# Altium integrated library Micron Memory Parallel NOR Flash.IntLib: 720 symbols (part 27 of 216)
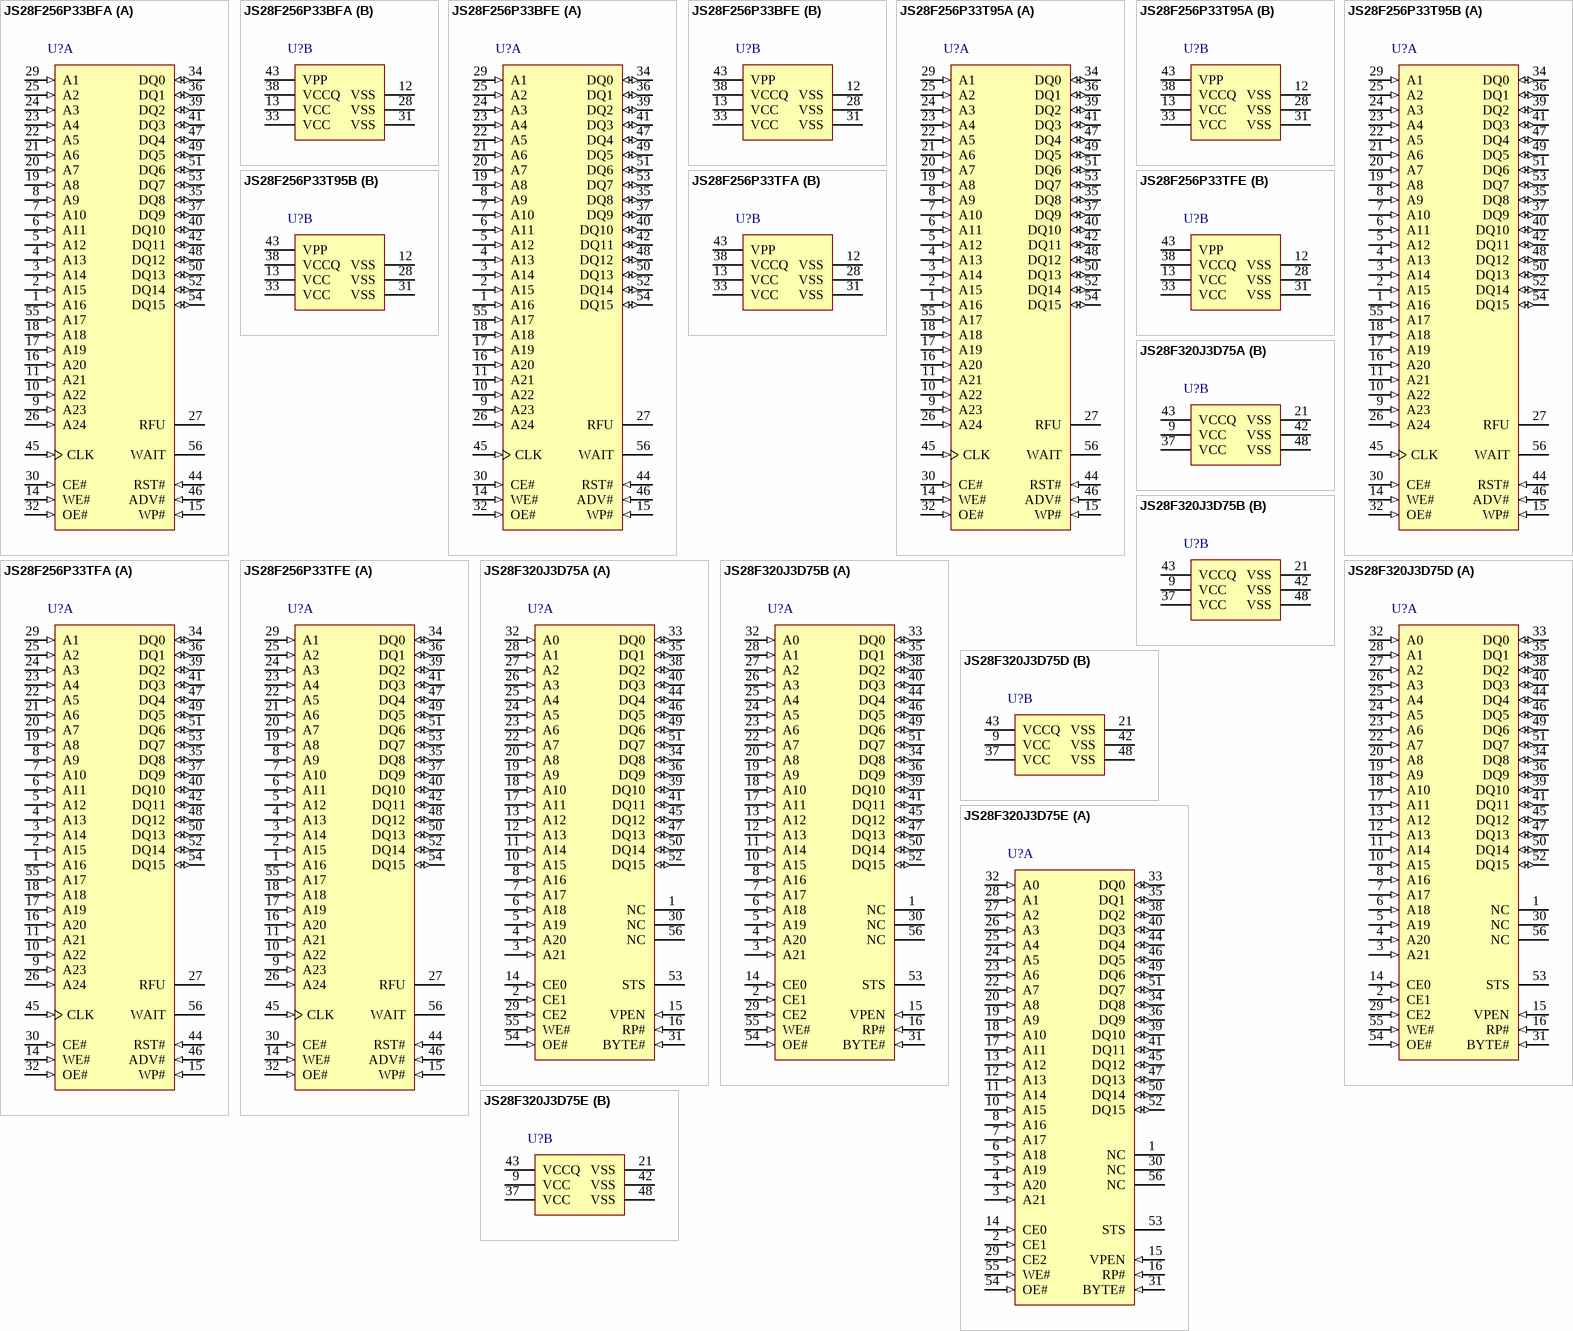
[diagram p185: symbols JS28F256P33BFA to JS28F320J3D75E]

## JS28F320J3D75E
designator U?
32 Mb (x8/x16) Parallel NOR Flash Memory, 75 ns, 2.7 to 3.6 V, 56-pin TSOP (JS), Tray; Part Family: J3; Manufacturer: Micron; PartNumber: JS28F320J3D75E; Density: 32Mb; Op Temp: -40C to +85C; Speed: 75ns; Voltage: 2.7V-3.6V; DatasheetVersion: Rev. 06; PackageVersion: Rev. 12; PackageReference: MICT-JS-56; PackageDescription: 56-Pin TSOP, 18.4 X 14 mm, Pitch 0.5 mm; RoHS: Yes; Width: x8/x16; Mounting Technology: Surface Mount; ComponentLink1Description: Manufacturer URL; ComponentLink1URL: http://www.micron.com/; ComponentLink2Description: Datasheet; ComponentLink2URL: http://www.micron.com/~/media/Documents/Products/Data%20Sheet/NOR%20Flash/Parallel/J3/316577_J3D_Monolithic_DS.pdf; ComponentLink3Description: Package Specification; ComponentLink3URL: http://www.micron.com/~/media/Documents/Products/Data%20Sheet/NOR%20Flash/Parallel/P33/320003_P33_65nm_MLC_256MDiscrete_512MStack_DS.pdf
footprint MICT-JS-56_N (SOP, 56-Leads, Body 18.6x14.2mm, Pitch 0.5mm, IPC Medium Density)
part A pins: 1 NC "No Connect: Lead is not internally connected; it may be driven or floated.", 2 CE1 (in) "CHIP ENABLE: Activates the 32-, 64-, 128-Mbit devices’ control logic, input buffers, decoders, and sense amplifiers. When the device is de-selected (see Table 17, "Chip Enable Truth Table for 32-, 64-, 128-Mb" on page 30), (See Datasheet)", 3 A21 (in) "Address Input: Inputs for addresses during read and program operations. Addresses are internally latched during a program cycle: 32-Mbit -- A[21:1] 64-Mbit-- A[22:1] 128-Mbit -- A[23:1]", 4 A20 (in) "Address Input: Inputs for addresses during read and program operations. Addresses are internally latched during a program cycle: 32-Mbit -- A[21:1] 64-Mbit-- A[22:1] 128-Mbit -- A[23:1]", 5 A19 (in) "Address Input: Inputs for addresses during read and program operations. Addresses are internally latched during a program cycle: 32-Mbit -- A[21:1] 64-Mbit-- A[22:1] 128-Mbit -- A[23:1]", 6 A18 (in) "Address Input: Inputs for addresses during read and program operations. Addresses are internally latched during a program cycle: 32-Mbit -- A[21:1] 64-Mbit-- A[22:1] 128-Mbit -- A[23:1]", 7 A17 (in) "Address Input: Inputs for addresses during read and program operations. Addresses are internally latched during a program cycle: 32-Mbit -- A[21:1] 64-Mbit-- A[22:1] 128-Mbit -- A[23:1]", 8 A16 (in) "Address Input: Inputs for addresses during read and program operations. Addresses are internally latched during a program cycle: 32-Mbit -- A[21:1] 64-Mbit-- A[22:1] 128-Mbit -- A[23:1]", 10 A15 (in) "Address Input: Inputs for addresses during read and program operations. Addresses are internally latched during a program cycle: 32-Mbit -- A[21:1] 64-Mbit-- A[22:1] 128-Mbit -- A[23:1]", 11 A14 (in) "Address Input: Inputs for addresses during read and program operations. Addresses are internally latched during a program cycle: 32-Mbit -- A[21:1] 64-Mbit-- A[22:1] 128-Mbit -- A[23:1]", 12 A13 (in) "Address Input: Inputs for addresses during read and program operations. Addresses are internally latched during a program cycle: 32-Mbit -- A[21:1] 64-Mbit-- A[22:1] 128-Mbit -- A[23:1]", 13 A12 (in) "Address Input: Inputs for addresses during read and program operations. Addresses are internally latched during a program cycle: 32-Mbit -- A[21:1] 64-Mbit-- A[22:1] 128-Mbit -- A[23:1]", 14 CE0 (in) "CHIP ENABLE: Activates the 32-, 64-, 128-Mbit devices’ control logic, input buffers, decoders, and sense amplifiers. When the device is de-selected (see Table 17, "Chip Enable Truth Table for 32-, 64-, 128-Mb"on page 30), (See Datasheet)", 15 VPEN (in) "ERASE / PROGRAM / BLOCK LOCK ENABLE: For erasing array blocks, programming data, or configuring lock-bits. With VPEN =< VPENLK, memory contents cannot be altered.", 16 RP# (in) "RESET: RP#-low resets internal automation and puts the device in power-down mode. RP#-high enables normal operation. Exit from reset sets the device to read array mode. When driven low, RP# inhibits write operations which (See Datasheet)", 17 A11 (in) "Address Input: Inputs for addresses during read and program operations. Addresses are internally latched during a program cycle: 32-Mbit -- A[21:1] 64-Mbit-- A[22:1] 128-Mbit -- A[23:1]", 18 A10 (in) "Address Input: Inputs for addresses during read and program operations. Addresses are internally latched during a program cycle: 32-Mbit -- A[21:1] 64-Mbit-- A[22:1] 128-Mbit -- A[23:1]", 19 A9 (in) "Address Input: Inputs for addresses during read and program operations. Addresses are internally latched during a program cycle: 32-Mbit -- A[21:1] 64-Mbit-- A[22:1] 128-Mbit -- A[23:1]", 20 A8 (in) "Address Input: Inputs for addresses during read and program operations. Addresses are internally latched during a program cycle: 32-Mbit -- A[21:1] 64-Mbit-- A[22:1] 128-Mbit -- A[23:1]", 22 A7 (in) "Address Input: Inputs for addresses during read and program operations. Addresses are internally latched during a program cycle: 32-Mbit -- A[21:1] 64-Mbit-- A[22:1] 128-Mbit -- A[23:1]", 23 A6 (in) "Address Input: Inputs for addresses during read and program operations. Addresses are internally latched during a program cycle: 32-Mbit -- A[21:1] 64-Mbit-- A[22:1] 128-Mbit -- A[23:1]", 24 A5 (in) "Address Input: Inputs for addresses during read and program operations. Addresses are internally latched during a program cycle: 32-Mbit -- A[21:1] 64-Mbit-- A[22:1] 128-Mbit -- A[23:1]", 25 A4 (in) "Address Input: Inputs for addresses during read and program operations. Addresses are internally latched during a program cycle: 32-Mbit -- A[21:1] 64-Mbit-- A[22:1] 128-Mbit -- A[23:1]", 26 A3 (in) "Address Input: Inputs for addresses during read and program operations. Addresses are internally latched during a program cycle: 32-Mbit -- A[21:1] 64-Mbit-- A[22:1] 128-Mbit -- A[23:1]", 27 A2 (in) "Address Input: Inputs for addresses during read and program operations. Addresses are internally latched during a program cycle: 32-Mbit -- A[21:1] 64-Mbit-- A[22:1] 128-Mbit -- A[23:1]", 28 A1 (in) "Address Input: Inputs for addresses during read and program operations. Addresses are internally latched during a program cycle: 32-Mbit -- A[21:1] 64-Mbit-- A[22:1] 128-Mbit -- A[23:1]", 29 CE2 (in) "CHIP ENABLE: Activates the 32-, 64-, 128-Mbit devices’ control logic, input buffers, decoders, and sense amplifiers. When the device is de-selected (see Table 17, "Chip Enable Truth Table for 32-, 64-, 128-Mb" on page 30), (See Datasheet)", 30 NC "No Connect: Lead is not internally connected; it may be driven or floated.", 31 BYTE# (in) "BYTE ENABLE: BYTE#-low places the device in x8 mode; data is input or output on D[7:0], while D[15:8] is placed in High-Z. Address A0 selects between the high and low byte. BYTE#-high places the device in x16 mode, and turns (See Datasheet)", 32 A0 (in) "BYTE-SELECT ADDRESS: Selects between high and low byte when the device is in x8 mode. This address is latched during a x8 program cycle. Not used in x16 mode (i.e., the A0 input buffer is turned off when BYTE# is high).", 33 DQ0 (io) "LOW-BYTE DATA BUS: Inputs data during buffer writes and programming, and inputs commands during CUI writes. Output array, CFI, identifier, or status data in the appropriate read mode. Data is internally latched during write (See Datasheet)", 34 DQ8 (io) "HIGH-BYTE DATA BUS: Inputs data during x16 buffer writes and programming operations. Outputs array, CFI, or identifier data in the appropriate read mode; not used for Status Register reads. Data is internally latched during (See Datasheet)", 35 DQ1 (io) "LOW-BYTE DATA BUS: Inputs data during buffer writes and programming, and inputs commands during CUI writes. Output array, CFI, identifier, or status data in the appropriate read mode. Data is internally latched during write (See Datasheet)", 36 DQ9 (io) "HIGH-BYTE DATA BUS: Inputs data during x16 buffer writes and programming operations. Outputs array, CFI, or identifier data in the appropriate read mode; not used for Status Register reads. Data is internally latched during (See Datasheet)", 38 DQ2 (io) "LOW-BYTE DATA BUS: Inputs data during buffer writes and programming, and inputs commands during CUI writes. Output array, CFI, identifier, or status data in the appropriate read mode. Data is internally latched during write (See Datasheet)", 39 DQ10 (io) "HIGH-BYTE DATA BUS: Inputs data during x16 buffer writes and programming operations. Outputs array, CFI, or identifier data in the appropriate read mode; not used for Status Register reads. Data is internally latched during (See Datasheet)", 40 DQ3 (io) "LOW-BYTE DATA BUS: Inputs data during buffer writes and programming, and inputs commands during CUI writes. Output array, CFI, identifier, or status data in the appropriate read mode. Data is internally latched during write (See Datasheet)", 41 DQ11 (io) "HIGH-BYTE DATA BUS: Inputs data during x16 buffer writes and programming operations. Outputs array, CFI, or identifier data in the appropriate read mode; not used for Status Register reads. Data is internally latched during (See Datasheet)", 44 DQ4 (io) "LOW-BYTE DATA BUS: INPUT data during buffer writes and programming, and INPUT commands during CUI writes. OUTPUT array, CFI, identifier, or status data in the appropriate read mode. Data is internally latched during write (See Datasheet)", 45 DQ12 (io) "HIGH-BYTE DATA BUS: Inputs data during x16 buffer writes and programming operations. Outputs array, CFI, or identifier data in the appropriate read mode; not used for Status Register reads. Data is internally latched during (See Datasheet)", 46 DQ5 (io) "LOW-BYTE DATA BUS: Inputs data during buffer writes and programming, and inputs commands during CUI writes. Outputs array, CFI, identifier, or status data in the appropriate read mode. Data is internally latched during write (See Datasheet)", 47 DQ13 (io) "HIGH-BYTE DATA BUS: Inputs data during x16 buffer writes and programming operations. Outputs array, CFI, or identifier data in the appropriate read mode; not used for Status Register reads. Data is internally latched during (See Datasheet)", 49 DQ6 (io) "LOW-BYTE DATA BUS: Inputs data during buffer writes and programming, and inputs commands during CUI writes. Outputs array, CFI, identifier, or status data in the appropriate read mode. Data is internally latched during write (See Datasheet)", 50 DQ14 (io) "HIGH-BYTE DATA BUS: Inputs data during x16 buffer writes and programming operations. Outputs array, CFI, or identifier data in the appropriate read mode; not used for Status Register reads. Data is internally latched during (See Datasheet)", 51 DQ7 (io) "LOW-BYTE DATA BUS: Inputs data during buffer writes and programming, and inputs commands during CUI writes. Outputs array, CFI, identifier, or status data in the appropriate read mode. Data is internally latched during write (See Datasheet)", 52 DQ15 (io) "HIGH-BYTE DATA BUS: Inputs data during x16 buffer writes and programming operations. Outputs array, CFI, or identifier data in the appropriate read mode; not used for Status Register reads. Data is internally latched during (See Datasheet)", 53 STS (hiz) "STATUS: Indicates the status of the internal state machine. When configured in level mode (default), it acts as a RY/BY# signal. When configured in one of its pulse modes, it can pulse to indicate program and/or erase (See Datasheet)", 54 OE# (in) "OUTPUT ENABLE: Activates the device’s outputs through the data buffers during a read cycle. OE# is active low.", 55 WE# (in) "WRITE ENABLE: Controls writes to the CUI, the Write Buffer, and array blocks. WE# is active low. Addresses and data are latched on the rising edge of WE#.", 56 NC "No Connect: Lead is not internally connected; it may be driven or floated."
part B pins: 9 VCC (power) "CORE Power Supply: Core (logic) source voltage. Writes to the flash array are inhibited when VCC =< VLko. Caution: Device operation at invalid Vcc voltages should not be attempted.", 21 VSS (power) "GROUND: Ground reference for device logic voltages. Connect to system ground.", 37 VCC (power) "CORE Power Supply: Core (logic) source voltage. Writes to the flash array are inhibited when VCC =< VLko. Caution: Device operation at invalid Vcc voltages should not be attempted.", 42 VSS (power) "GROUND: Ground reference for device logic voltages. Connect to system ground.", 43 VCCQ (power) "I/O Power Supply: Power supply for Input/Output buffers.This ball can be tied directly to VCC.", 48 VSS (power) "GROUND: Ground reference for device logic voltages. Connect to system ground."

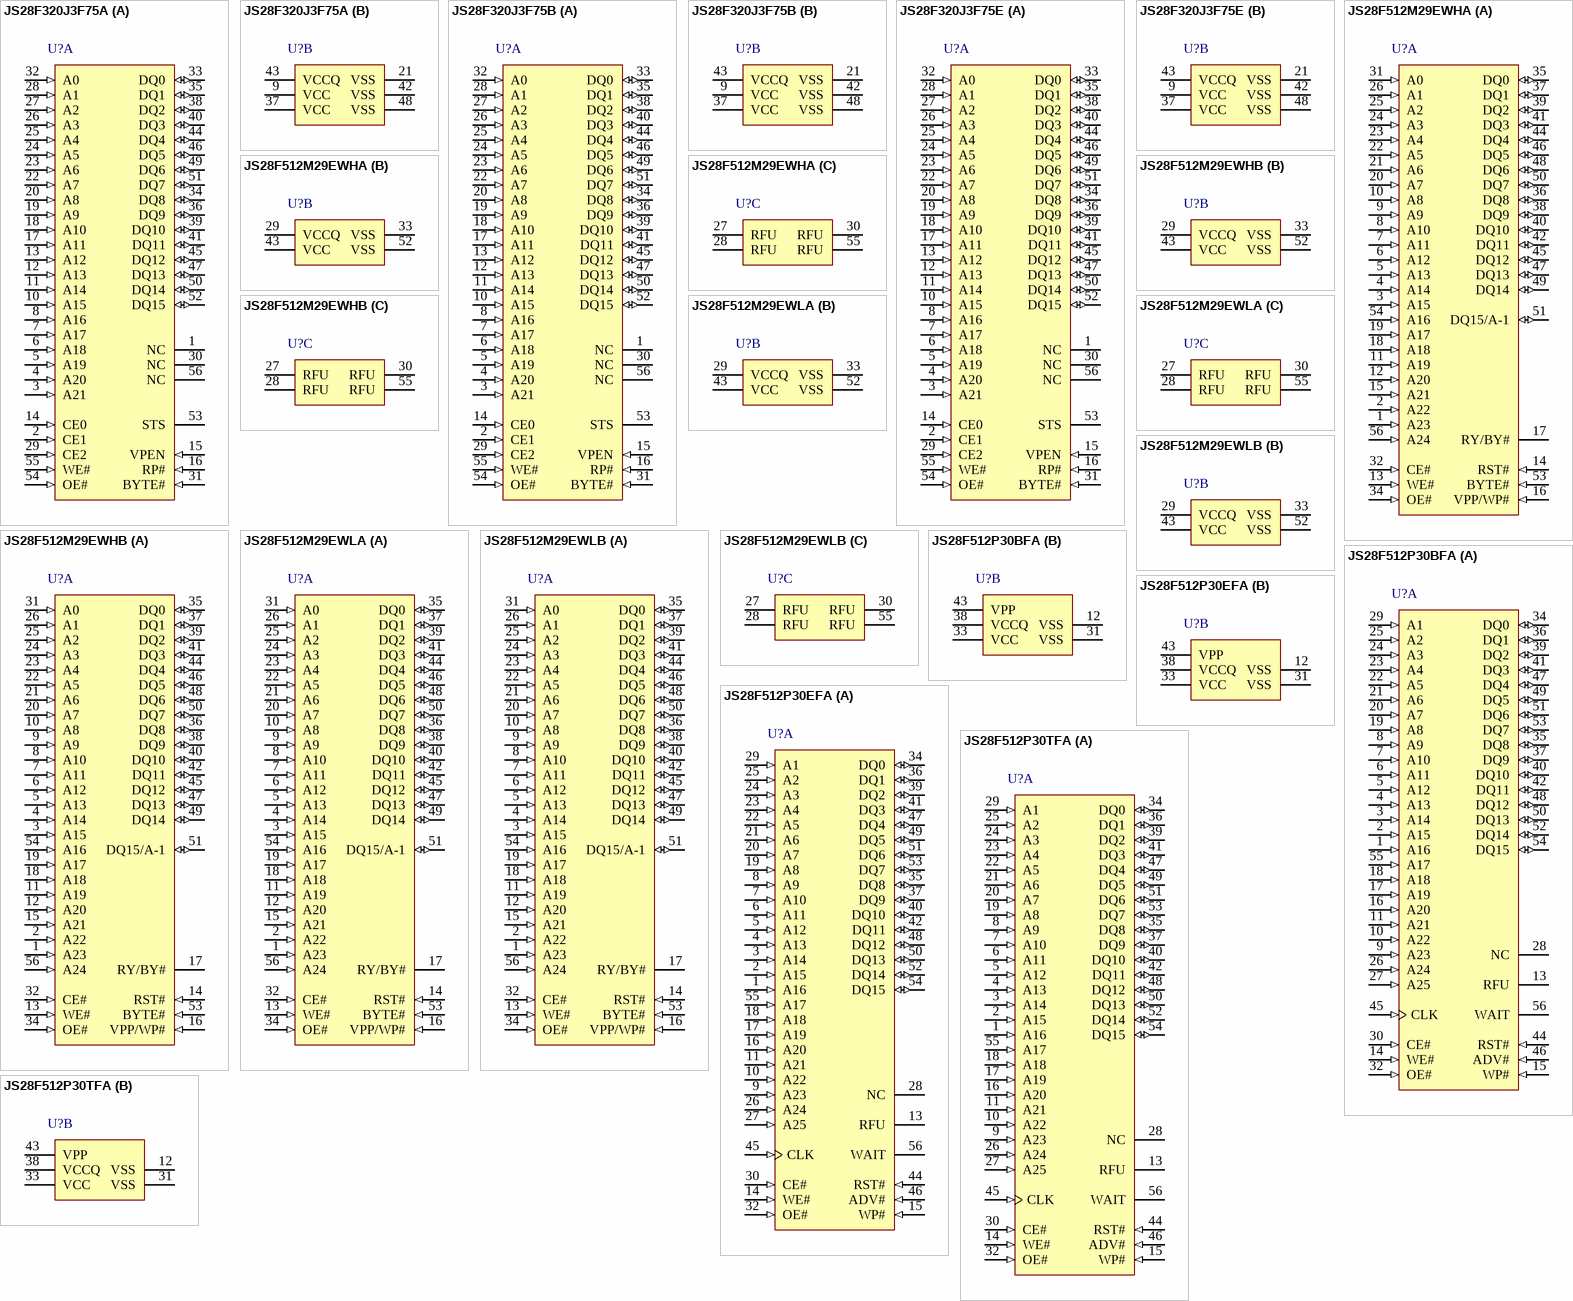
[diagram p7: symbols JS28F320J3F75A to JS28F512P30TFA]